# Altium integrated library SN74LS245DW.IntLib: 1 symbol
Pins are listed as number, name and electrical type; pins without a type are passive.

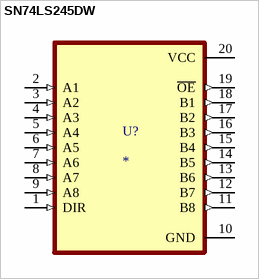
[diagram p0: symbol SN74LS245DW]

## SN74LS245DW
designator U?
Octal bus transceivers 20-SOIC 0 to 70; MP: SN74LS245DW; MF: Texas Instruments; Package: SOIC-20 Texas Instruments; Purchase-URL: https://pricing.snapeda.com/search/part/SN74LS245DW/?ref=eda; Check_prices: https://www.snapeda.com/parts/SN74LS245DW/Texas%20Instruments/view-part/564932/?ref=eda; Value: *; Digi-Key_Part_Number: 296-1214-2-ND; SnapEDA_Link: https://www.snapeda.com/parts/SN74LS245DW/Texas%20Instruments/view-part/564932/?ref=snap
footprint SOIC127P1030X265-20N
pins: 1 DIR (in), 2 A1 (in), 3 A2 (in), 4 A3 (in), 5 A4 (in), 6 A5 (in), 7 A6 (in), 8 A7 (in), 9 A8 (in), 10 GND (power), 11 B8 (out), 12 B7 (out), 13 B6 (out), 14 B5 (out), 15 B4 (out), 16 B3 (out), 17 B2 (out), 18 B1 (out), 19 ~{OE} (out), 20 VCC (power)